# EAGLE library part 2706-312 (library con-wago_2706)
Serie 2706, Klemmenleisten mit Betätigungshebeln 2 Lötstifte/Pol / Series 2706, Terminal strips with operating levers 2 solder pins/pole Polzahl / Pole No.: 12 Rastermaß / Pitch: 12.5 mm Bemessungsspannung / Rated Voltage: 1000 V Nennstrom / Nominal Current: 41 A Leiterquerschnitt / Conductor Size: 0.5 - 6 mm2 Anschlusstechnik / Connection Technology: CAGE CLAMP® Lötstiftlänge: / Solder Pin Length: 4.5 mm Leitereinführung (zur Platine) / Conductor entry angle (to PCB): 30 ° Farbe / Color: grau / gray Stand: 01.01.2014. Die jeweils aktuellen Daten zu diesem Artikel finden Sie in unserem Produktkatalog, den Sie unter www.wago.com einsehen können. As of: 01/01/2014. Please find the newest data for this article in our product catalogue, which can be viewed under www.wago.com.
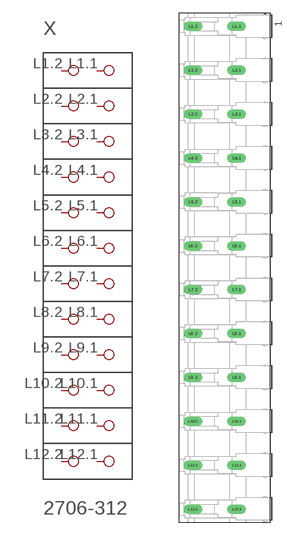
[diagram p69: symbol with the pads of P-2706-312; footprint P-2706-312]

Designator prefix X

## 2706-312  [P-2706-312]
L1.1  P1.1
L1.2  P1.2
L2.1  P2.1
L2.2  P2.2
L3.1  P3.1
L3.2  P3.2
L4.1  P4.1
L4.2  P4.2
L5.1  P5.1
L5.2  P5.2
L6.1  P6.1
L6.2  P6.2
L7.1  P7.1
L7.2  P7.2
L8.1  P8.1
L8.2  P8.2
L9.1  P9.1
L9.2  P9.2
L10.1  P10.1
L10.2  P10.2
L11.1  P11.1
L11.2  P11.2
L12.1  P12.1
L12.2  P12.2

## Footprint P-2706-312 (pad centres in mm)
drill 1.8 long: L1.1 3.185,68.75; L1.2 -9.315,68.75; L2.1 3.185,56.25; L2.2 -9.315,56.25; L3.1 3.185,43.75; L3.2 -9.315,43.75; L4.1 3.185,31.25; L4.2 -9.315,31.25; L5.1 3.185,18.75; L5.2 -9.315,18.75; L6.1 3.185,6.25; L6.2 -9.315,6.25; L7.1 3.185,-6.25; L7.2 -9.315,-6.25; L8.1 3.185,-18.75; L8.2 -9.315,-18.75; L9.1 3.185,-31.25; L9.2 -9.315,-31.25; L10.1 3.185,-43.75; L10.2 -9.315,-43.75; L11.1 3.185,-56.25; L11.2 -9.315,-56.25; L12.1 3.185,-68.75; L12.2 -9.315,-68.75